# Altium schematic symbol library 元件库.SCHLIB: 17 symbols
Pins are listed as number, name and electrical type; pins without a type are passive.

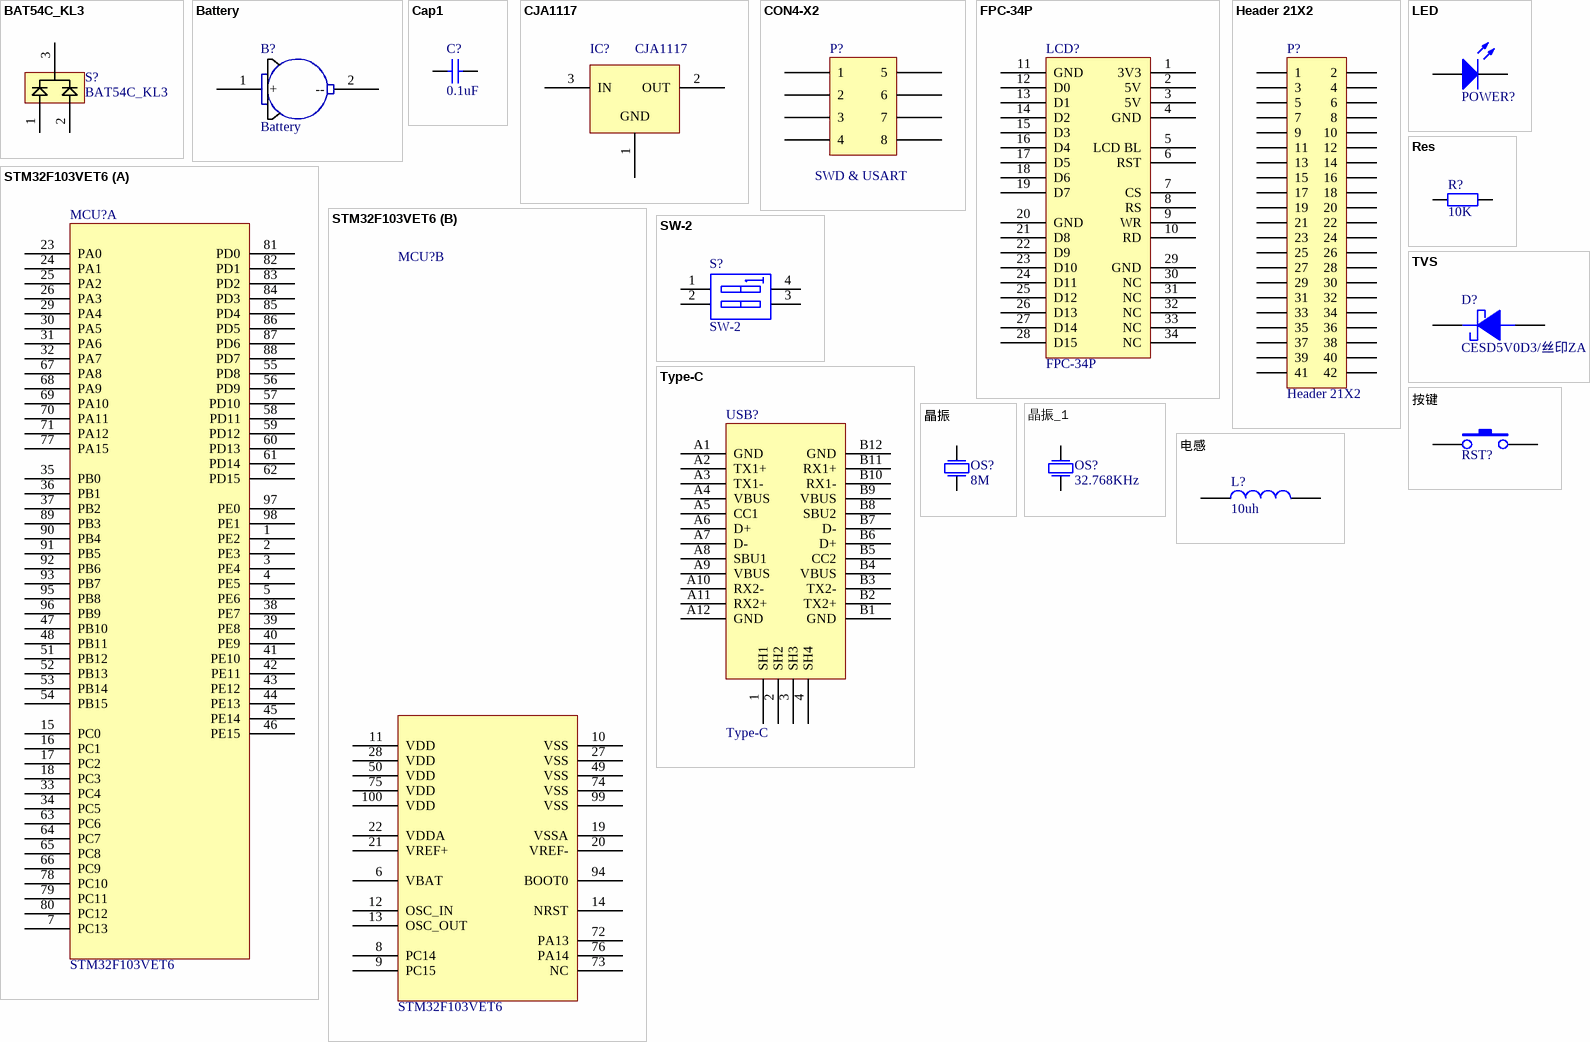
[diagram p0: symbols BAT54C_KL3 to 电感]

## BAT54C_KL3
designator S?
footprint SO-G3/C2.25 (SOT-23; 3 Leads; Body 3.0 x 2.5 mm, inc. leads (LxW max))
pins: 1, 2, 3

## Battery
designator B?
footprint BatteryHolder
footprint CR1220
pins: 1 +, 2 --

## Cap1
designator C?, comment 0.1uF
value: 0.1uF
footprint RAD0.2
footprint RAD0.3
footprint RAD0.4
footprint RAD0.5
footprint RAD0.6
footprint 0603-cap (Chip Capacitor, 2-Leads, Body 1.60x0.80mm, IPC Medium Density)
footprint 0805-CAP (Chip Capacitor, 2-Leads, Body 2.80x1.40mm, IPC Medium Density)
footprint 0402-CAP (Chip Capacitor, 2-Leads, Body 1.00x0.50mm, IPC Medium Density)
pins: 1, 2

## CJA1117
designator IC?
footprint SOT89 (SOT89, 3-Leads, Body 4.50x2.45mm, Pitch 1.50mm, Lead Span 4.1mm, IPC Medium Density)
pins: 1 GND, 2 OUT, 3 IN

## CON4-X2
designator P?, comment SWD & USART
footprint 2X4P-2.5MM-SMD
pins: 1, 2, 3, 4, 5, 6, 7, 8

## FPC-34P
designator LCD?
footprint FPC34P-0.5MM
pins: 1 3V3, 2 5V, 3 5V, 4 GND, 5 LCD BL, 6 RST, 7 CS, 8 RS, 9 WR, 10 RD, 11 GND, 12 D0, 13 D1, 14 D2, 15 D3, 16 D4, 17 D5, 18 D6, 19 D7, 20 GND, 21 D8, 22 D9, 23 D10, 24 D11, 25 D12, 26 D13, 27 D14, 28 D15, 29 GND, 30 NC, 31 NC, 32 NC, 33 NC, 34 NC

## Header 21X2
designator P?
Header, 21-Pin, Dual row; LatestRevisionDate: 17-Jul-2002; LatestRevisionNote: Re-released for DXP Platform.; Publisher: Altium Limited
signal-integrity model Connector
footprint HDR2X21 (Connector; Header; 21x2 Position)
pins: 1, 2, 3, 4, 5, 6, 7, 8, 9, 10, 11, 12, 13, 14, 15, 16, 17, 18, 19, 20, 21, 22, 23, 24, 25, 26, 27, 28, 29, 30, 31, 32, 33, 34, 35, 36, 37, 38, 39, 40, 41, 42

## LED
designator POWER?  (value not drawn)
footprint D0805
footprint LED1
footprint LED2
footprint D1206
footprint D0603
pins: 1 A, 2 K

## Res
designator R?, comment 10K
value: 10K
footprint AXIAL0.4
footprint AXIAL0.8
footprint 2512
footprint AXIAL0.5
footprint AXIAL0.6
footprint 0603-res
footprint 0805-res (Chip Resistor, 2-Leads, Body 2.20x1.25mm, IPC Medium Density)
footprint 0402-RES (Chip Resistor, 2-Leads, Body 1.00x0.50mm, IPC Medium Density)
pins: 1, 2

## STM32F103VET6
designator MCU?
footprint F-QFP14X14-G100/Z17N
part A pins: 1 PE2, 2 PE3, 3 PE4, 4 PE5, 5 PE6, 7 PC13, 15 PC0, 16 PC1, 17 PC2, 18 PC3, 23 PA0, 24 PA1, 25 PA2, 26 PA3, 29 PA4, 30 PA5, 31 PA6, 32 PA7, 33 PC4, 34 PC5, 35 PB0, 36 PB1, 37 PB2, 38 PE7, 39 PE8, 40 PE9, 41 PE10, 42 PE11, 43 PE12, 44 PE13, 45 PE14, 46 PE15, 47 PB10, 48 PB11, 51 PB12, 52 PB13, 53 PB14, 54 PB15, 55 PD8, 56 PD9, 57 PD10, 58 PD11, 59 PD12, 60 PD13, 61 PD14, 62 PD15, 63 PC6, 64 PC7, 65 PC8, 66 PC9, 67 PA8, 68 PA9, 69 PA10, 70 PA11, 71 PA12, 77 PA15, 78 PC10, 79 PC11, 80 PC12, 81 PD0, 82 PD1, 83 PD2, 84 PD3, 85 PD4, 86 PD5, 87 PD6, 88 PD7, 89 PB3, 90 PB4, 91 PB5, 92 PB6, 93 PB7, 95 PB8, 96 PB9, 97 PE0, 98 PE1
part B pins: 6 VBAT, 8 PC14, 9 PC15, 10 VSS, 11 VDD, 12 OSC_IN, 13 OSC_OUT, 14 NRST, 19 VSSA, 20 VREF-, 21 VREF+, 22 VDDA, 27 VSS, 28 VDD, 49 VSS, 50 VDD, 72 PA13, 73 NC, 74 VSS, 75 VDD, 76 PA14, 94 BOOT0, 99 VSS, 100 VDD

## SW-2
designator S?
footprint DIP-4
footprint SWT10*6_P4
pins: 1 A1, 2 A2, 3 B2, 4 B1

## TVS
designator D?, comment CESD5V0D3/丝印ZA
footprint SOD323 (SODFL, 2-Leads, Body 1.30x2.60mm, IPC Medium Density)
footprint SMA/DO-214AC
footprint SMB/DO-214AA
pins: 1 +, 2 -

## Type-C
designator USB?
footprint Type-C (16pin)
pins: 1 SH1, 2 SH2, 3 SH3, 4 SH4, A1 GND, A2 TX1+, A3 TX1-, A4 VBUS, A5 CC1, A6 D+, A7 D-, A8 SBU1, A9 VBUS, A10 RX2-, A11 RX2+, A12 GND, B1 GND, B2 TX2+, B3 TX2-, B4 VBUS, B5 CC2, B6 D+, B7 D-, B8 SBU2, B9 VBUS, B10 RX1-, B11 RX1+, B12 GND

## 按键
designator RST?  (value not drawn)
footprint SW6*6
footprint SW12*12
footprint SWT5*5
footprint SWT3*4
pins: 1, 2

## 晶振
designator OS?, comment 8M
vaule: 8M
footprint JZ1
footprint JZ_O1
footprint 5032_2P
footprint FC135-3.2X1.5
footprint 3225
footprint 5032
footprint XTAL3
pins: 1 P1, 2 P2

## 晶振_1
designator OS?, comment 32.768KHz
vaule: 32.768KHz
footprint JZ1
footprint JZ_O1
footprint JZ_O2
footprint FC135-3.2X1.5
footprint 3225
footprint 5032
footprint XTAL3
pins: 1 P1, 2 P2

## 电感
designator L?, comment 10uh
footprint AXIAL0.5
footprint 0805 (Chip Resistor, 2-Leads, Body 2.0x1.3mm, IPC Medium Density)
footprint AXIAL0.7
footprint 7257
footprint L12.6
footprint 1210
footprint CDRH104R
footprint CDRH4D28
footprint 0603-res
footprint 0402-res
pins: 1, 2